# Altium schematic symbol library FU.SchLib: 1 symbol
Pins are listed as number, name and electrical type; pins without a type are passive.

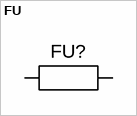
[diagram p0: symbol FU]

## FU
designator FU?  (value not drawn)
pins: 1, 2